# Altium schematic symbol library iguide_custom.SchLib: 19 symbols
Pins are listed as number, name and electrical type; pins without a type are passive.

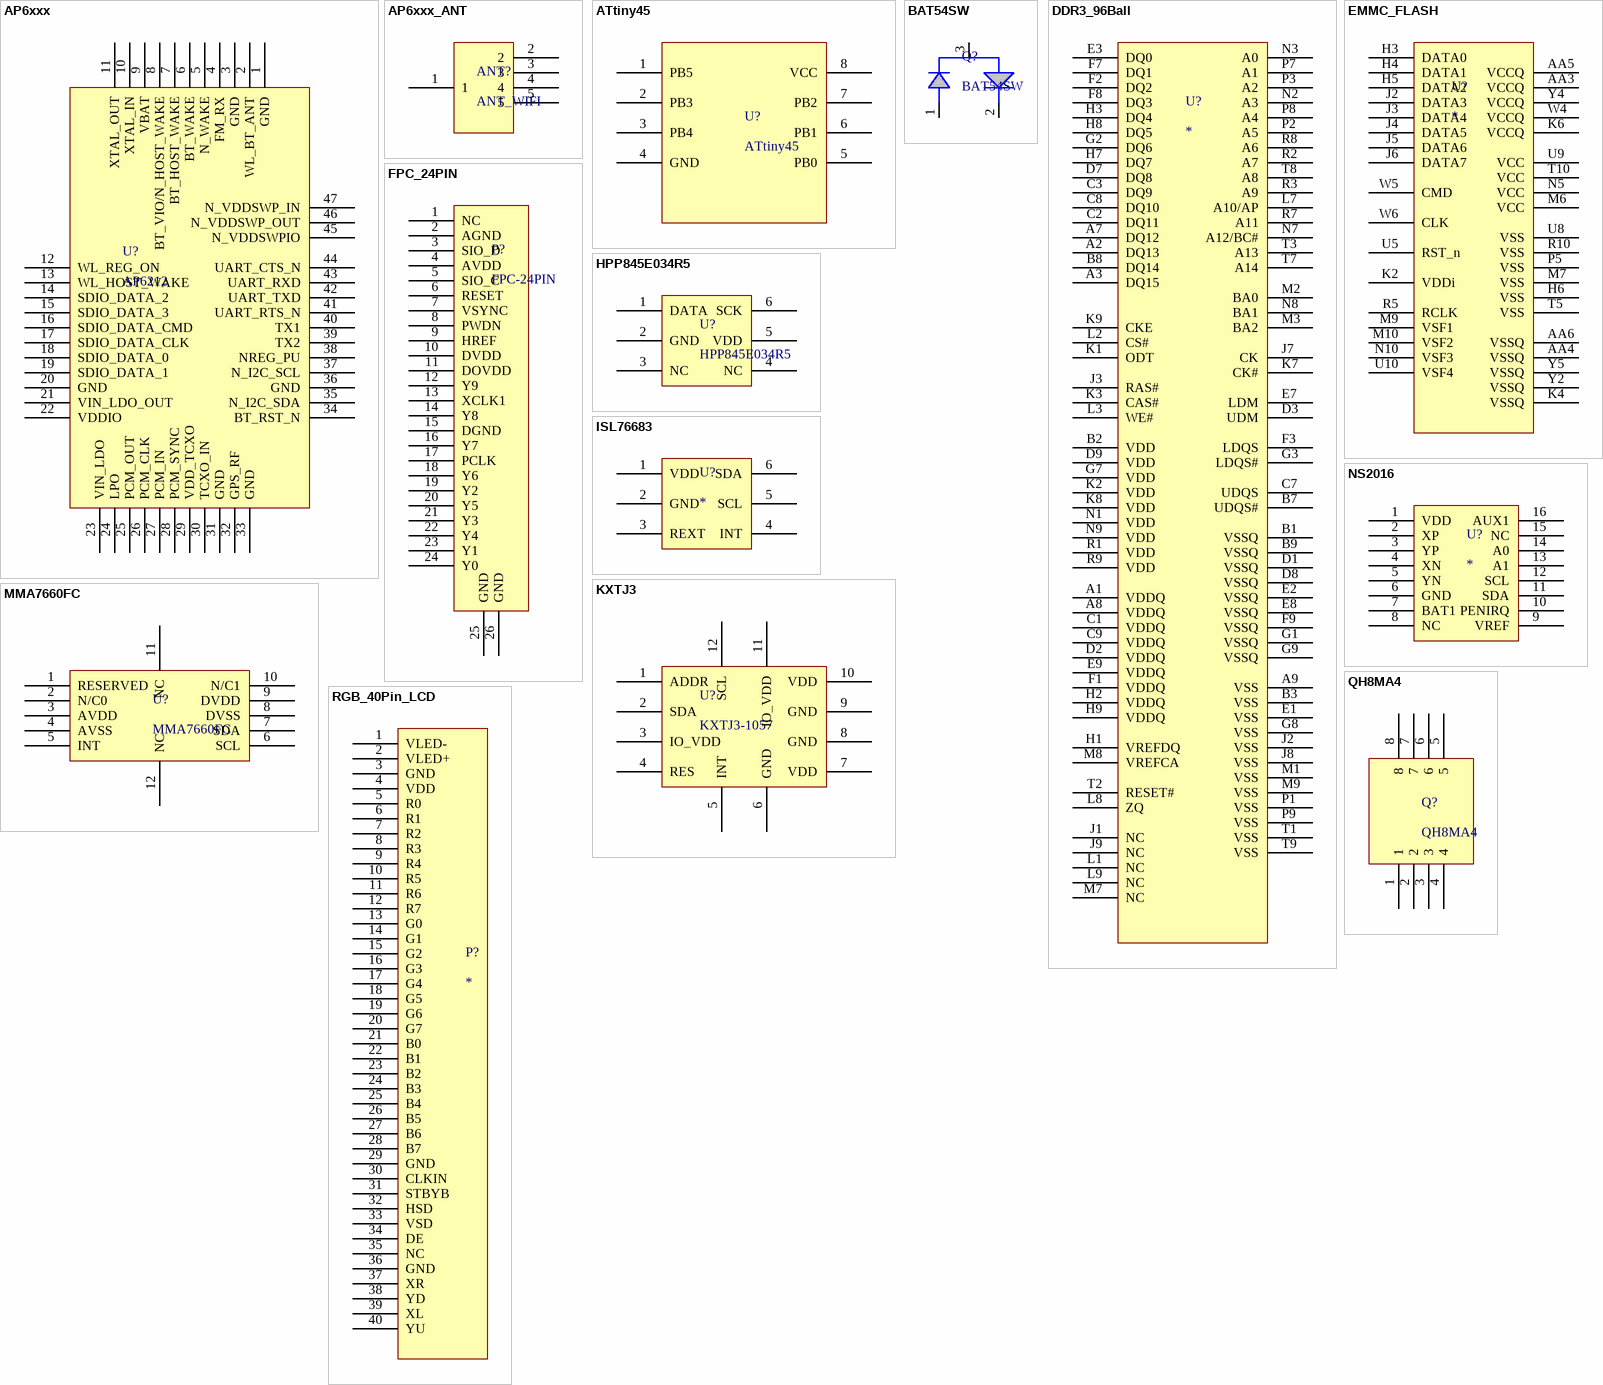
[diagram p0: symbols AP6xxx to RGB_40Pin_LCD]

## AP6xxx
designator U?, comment AP6212
pins: 1 GND, 2 WL_BT_ANT, 3 GND, 4 FM_RX, 5 N_WAKE, 6 BT_WAKE, 7 BT_HOST_WAKE, 8 BT_VIO/N_HOST_WAKE, 9 VBAT, 10 XTAL_IN, 11 XTAL_OUT, 12 WL_REG_ON, 13 WL_HOST_WAKE, 14 SDIO_DATA_2, 15 SDIO_DATA_3, 16 SDIO_DATA_CMD, 17 SDIO_DATA_CLK, 18 SDIO_DATA_0, 19 SDIO_DATA_1, 20 GND, 21 VIN_LDO_OUT, 22 VDDIO, 23 VIN_LDO, 24 LPO, 25 PCM_OUT, 26 PCM_CLK, 27 PCM_IN, 28 PCM_SYNC, 29 VDD_TCXO, 30 TCXO_IN, 31 GND, 32 GPS_RF, 33 GND, 34 BT_RST_N, 35 N_I2C_SDA, 36 GND, 37 N_I2C_SCL, 38 NREG_PU, 39 TX2, 40 TX1, 41 UART_RTS_N, 42 UART_TXD, 43 UART_RXD, 44 UART_CTS_N, 45 N_VDDSWPIO, 46 N_VDDSWP_OUT, 47 N_VDDSWP_IN

## AP6xxx_ANT
designator ANT?, comment ANT_WIFI
pins: 1, 2, 3, 4, 5

## ATtiny45
designator U?
pins: 1 PB5, 2 PB3, 3 PB4, 4 GND, 5 PB0, 6 PB1, 7 PB2, 8 VCC

## BAT54SW
designator Q?
SOT323
pins: 1 A1, 2 A2, 3 K

## DDR3_96Ball
designator U?
pins: A1 VDDQ, A2 DQ13, A3 DQ15, A7 DQ12, A8 VDDQ, A9 VSS, B1 VSSQ, B2 VDD, B3 VSS, B7 UDQS#, B8 DQ14, B9 VSSQ, C1 VDDQ, C2 DQ11, C3 DQ9, C7 UDQS, C8 DQ10, C9 VDDQ, D1 VSSQ, D2 VDDQ, D3 UDM, D7 DQ8, D8 VSSQ, D9 VDD, E1 VSS, E2 VSSQ, E3 DQ0, E7 LDM, E8 VSSQ, E9 VDDQ, F1 VDDQ, F2 DQ2, F3 LDQS, F7 DQ1, F8 DQ3, F9 VSSQ, G1 VSSQ, G2 DQ6, G3 LDQS#, G7 VDD, G8 VSS, G9 VSSQ, H1 VREFDQ, H2 VDDQ, H3 DQ4, H7 DQ7, H8 DQ5, H9 VDDQ, J1 NC, J2 VSS, J3 RAS#, J7 CK, J8 VSS, J9 NC, K1 ODT, K2 VDD, K3 CAS#, K7 CK#, K8 VDD, K9 CKE, L1 NC, L2 CS#, L3 WE#, L7 A10/AP, L8 ZQ, L9 NC, M1 VSS, M2 BA0, M3 BA2, M7 NC, M8 VREFCA, M9 VSS, N1 VDD, N2 A3, N3 A0, N7 A12/BC#, N8 BA1, N9 VDD, P1 VSS, P2 A5, P3 A2, P7 A1, P8 A4, P9 VSS, R1 VDD, R2 A7, R3 A9, R7 A11, R8 A6, R9 VDD, T1 VSS, T2 RESET#, T3 A13, T7 A14, T8 A8, T9 VSS

## EMMC_FLASH
designator U?
EMMC Flash
pins: AA3 VCCQ, AA4 VSSQ, AA5 VCCQ, AA6 VSSQ, H3 DATA0, H4 DATA1, H5 DATA2, H6 VSS, J2 DATA3, J3 DATA4, J4 DATA5, J5 DATA6, J6 DATA7, K2 VDDi, K4 VSSQ, K6 VCCQ, M6 VCC, M7 VSS, M9 VSF1, M10 VSF2, N5 VCC, N10 VSF3, P5 VSS, R5 RCLK, R10 VSS, T5 VSS, T10 VCC, U5 RST_n, U8 VSS, U9 VCC, U10 VSF4, W4 VCCQ, W5 CMD, W6 CLK, Y2 VSSQ, Y4 VCCQ, Y5 VSSQ

## FPC_24PIN
designator P?, comment FPC-24PIN
cif 24pin footprint
pins: 1 NC, 2 AGND, 3 SIO_D, 4 AVDD, 5 SIO_C, 6 RESET, 7 VSYNC, 8 PWDN, 9 HREF, 10 DVDD, 11 DOVDD, 12 Y9, 13 XCLK1, 14 Y8, 15 DGND, 16 Y7, 17 PCLK, 18 Y6, 19 Y2, 20 Y5, 21 Y3, 22 Y4, 23 Y1, 24 Y0, 25 GND, 26 GND

## HPP845E034R5
designator U?
pins: 1 DATA, 2 GND, 3 NC, 4 NC, 5 VDD, 6 SCK

## ISL76683
designator U?
pins: 1 VDD, 2 GND, 3 REXT, 4 INT, 5 SCL, 6 SDA

## KXTJ3
designator U?, comment KXTJ3-1057
pins: 1 ADDR, 2 SDA, 3 IO_VDD, 4 RES, 5 INT, 6 GND, 7 VDD, 8 GND, 9 GND, 10 VDD, 11 IO_VDD, 12 SCL

## MMA7660FC
designator U?
pins: 1 RESERVED, 2 N/C0, 3 AVDD, 4 AVSS, 5 INT, 6 SCL, 7 SDA, 8 DVSS, 9 DVDD, 10 N/C1, 11 NC, 12 NC

## NS2016
designator U?
footprint Model Name (Footprint not found)
pins: 1 VDD, 2 XP, 3 YP, 4 XN, 5 YN, 6 GND, 7 BAT1, 8 NC, 9 VREF, 10 PENIRQ, 11 SDA, 12 SCL, 13 A1, 14 A0, 15 NC, 16 AUX1

## QH8MA4
designator Q?
TSMT8
pins: 1, 2, 3, 4, 5, 6, 7, 8

## RGB_40Pin_LCD
designator P?
LCD 40PIN set
pins: 1 VLED-, 2 VLED+, 3 GND, 4 VDD, 5 R0, 6 R1, 7 R2, 8 R3, 9 R4, 10 R5, 11 R6, 12 R7, 13 G0, 14 G1, 15 G2, 16 G3, 17 G4, 18 G5, 19 G6, 20 G7, 21 B0, 22 B1, 23 B2, 24 B3, 25 B4, 26 B5, 27 B6, 28 B7, 29 GND, 30 CLKIN, 31 STBYB, 32 HSD, 33 VSD, 34 DE, 35 NC, 36 GND, 37 XR, 38 YD, 39 XL, 40 YU

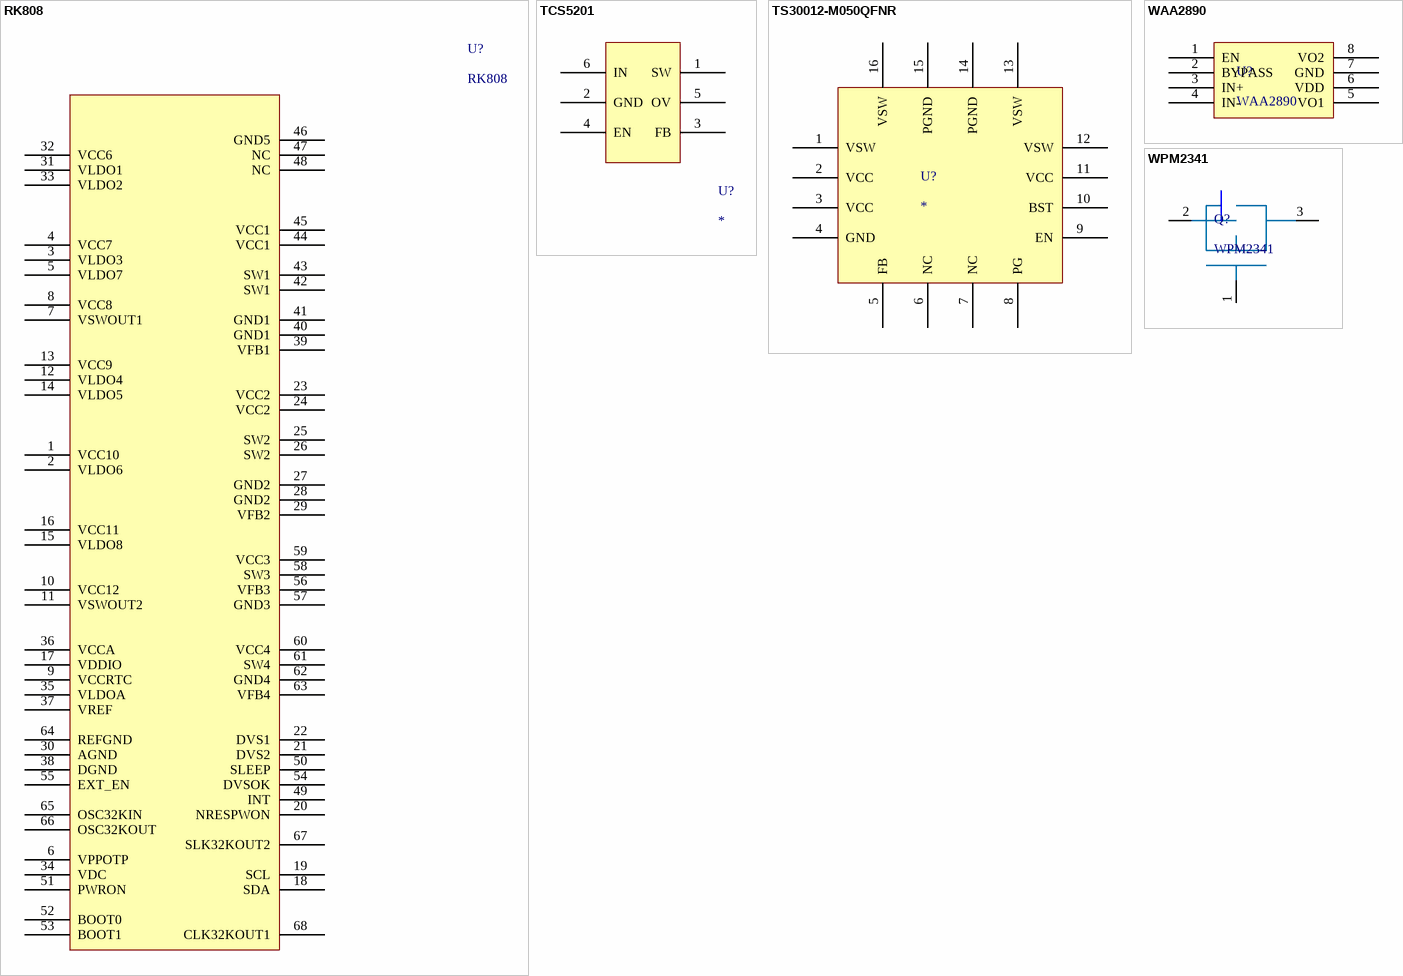
[diagram p1: symbols RK808 to WPM2341]

## RK808
designator U?
pins: 1 VCC10, 2 VLDO6, 3 VLDO3, 4 VCC7, 5 VLDO7, 6 VPPOTP, 7 VSWOUT1, 8 VCC8, 9 VCCRTC, 10 VCC12, 11 VSWOUT2, 12 VLDO4, 13 VCC9, 14 VLDO5, 15 VLDO8, 16 VCC11, 17 VDDIO, 18 SDA, 19 SCL, 20 NRESPWON, 21 DVS2, 22 DVS1, 23 VCC2, 24 VCC2, 25 SW2, 26 SW2, 27 GND2, 28 GND2, 29 VFB2, 30 AGND, 31 VLDO1, 32 VCC6, 33 VLDO2, 34 VDC, 35 VLDOA, 36 VCCA, 37 VREF, 38 DGND, 39 VFB1, 40 GND1, 41 GND1, 42 SW1, 43 SW1, 44 VCC1, 45 VCC1, 46 GND5, 47 NC, 48 NC, 49 INT, 50 SLEEP, 51 PWRON, 52 BOOT0, 53 BOOT1, 54 DVSOK, 55 EXT_EN, 56 VFB3, 57 GND3, 58 SW3, 59 VCC3, 60 VCC4, 61 SW4, 62 GND4, 63 VFB4, 64 REFGND, 65 OSC32KIN, 66 OSC32KOUT, 67 SLK32KOUT2, 68 CLK32KOUT1

## TCS5201
designator U?
LED升压模块, STO26
pins: 1 SW, 2 GND, 3 FB, 4 EN, 5 OV, 6 IN

## TS30012-M050QFNR
designator U?
pins: 1 VSW, 2 VCC, 3 VCC, 4 GND, 5 FB, 6 NC, 7 NC, 8 PG, 9 EN, 10 BST, 11 VCC, 12 VSW, 13 VSW, 14 PGND, 15 PGND, 16 VSW

## WAA2890
designator U?
pins: 1 EN, 2 BYPASS, 3 IN+, 4 IN-, 5 VO1, 6 VDD, 7 GND, 8 VO2

## WPM2341
designator Q?
footprint Model Name (Footprint not found)
pins: 1, 2, 3